# EAGLE library part MUN5233DW1 (library (custom)-new-components)
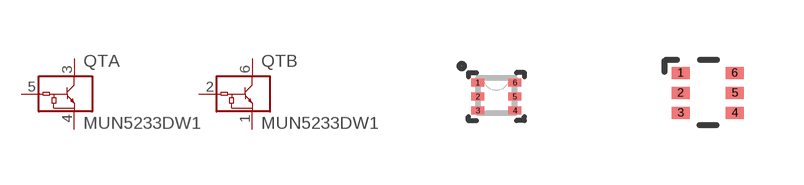
[diagram p13: symbol with the pads of SOT-963; footprints SOT-963, SOT-563]

Designator prefix QT; gates A=NPN_BIAS B=NPN_BIAS

## MUN5233DW1SOT963  [SOT-963]
1  B:E  pas
2  B:B_RES  pas
3  A:C  pas
4  A:E  pas
5  A:B_RES  pas
6  B:C  pas

## MUN5233DW1SOT563  [SOT-563]
Pads as for SOT-963

## Footprint SOT-963 (pad centres in mm)
smd 0.32 x 0.2: 1 -0.463,0.35; 2 -0.463,0; 3 -0.463,-0.35; 4 0.463,-0.35; 5 0.463,0; 6 0.463,0.35

## Footprint SOT-563 (pad centres in mm)
smd 0.45 x 0.3: 1 -1.118,0.34; 2 -1.118,-0.16; 3 -1.118,-0.66; 4 0.238,-0.66; 5 0.238,-0.16; 6 0.238,0.34